# Altium integrated library Analog Devices Data Converters Analog-to-Digital Converters.IntLib: 2404 symbols (part 5 of 346)
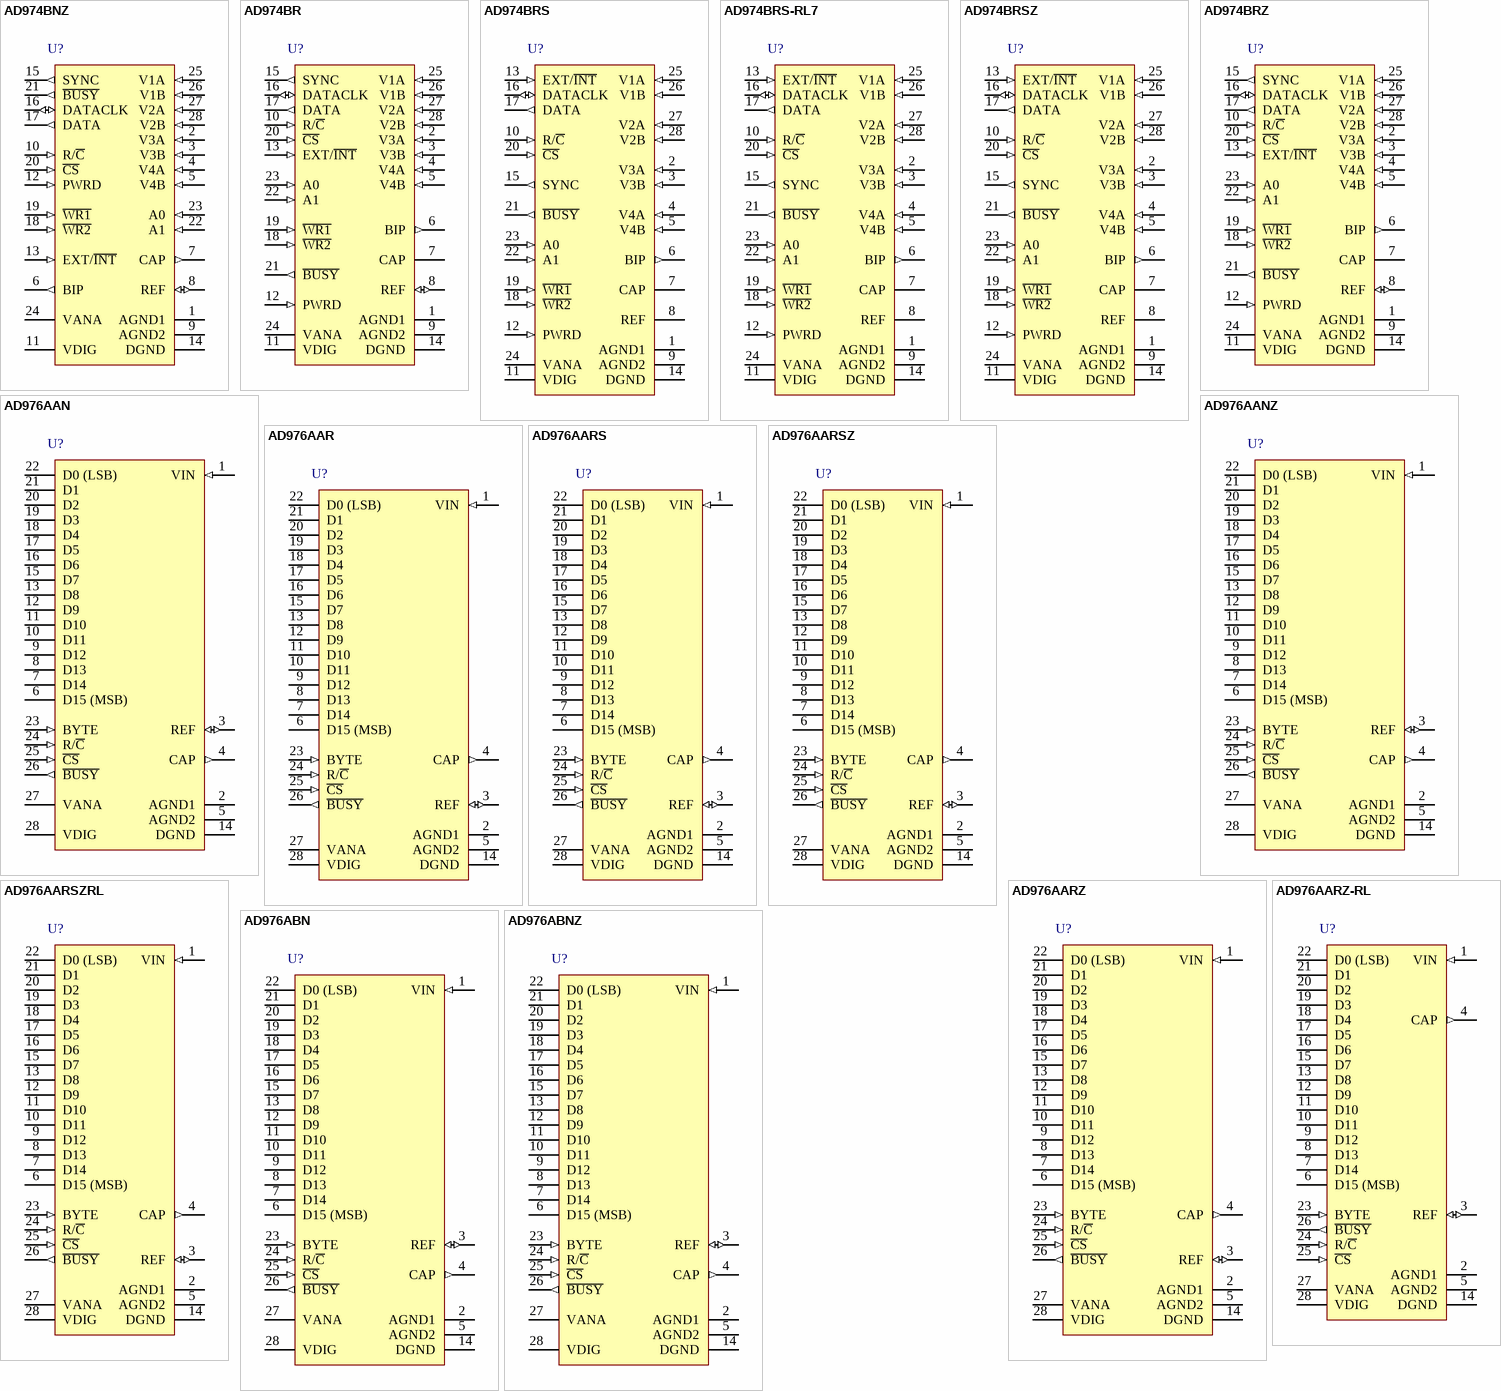
[diagram p158: symbols AD974BNZ to AD976ABNZ]

## AD974BR
designator U?
4 Channel, 16-Bit, 200 ksps Data Acquisition System, 200KSPS, -40 to +85 degC, RW-28, Tube; Generic Part Number: AD974; Manufacturer: Analog Devices; PartNumber: AD974BR; Resolution (Bits): 16; Channels: 4; Throughput Rate (SPS): 200K; Interface: Ser, SPI; DatasheetVersion: Rev.A; PackageVersion: 060706-A; PackageReference: RW-28; PackageDescription: 28-Lead Standard Small Outline Package [SOIC_W]; Supplier 1: Digi-Key; Supplier Part Number 1: AD974BR-ND; Supplier 2: Mouser; Supplier Part Number 2: 584-AD974BR; RoHS: N; Packing: Tube; Mounting Technology: Surface Mount; Code_JEDEC: MS-013-AE; ComponentLink1Description: Manufacturer URL; ComponentLink1URL: http://www.analog.com/en/index.html; ComponentLink2Description: Datasheet; ComponentLink2URL: http://www.analog.com/static/imported-files/data_sheets/AD974.pdf; ComponentLink3Description: Package Specification; ComponentLink3URL: http://www.analog.com/static/imported-files/packages/35833120341221RW_28.pdf; ComponentLink4Description: Product URL; ComponentLink4URL: http://www.analog.com/en/analog-to-digital-converters/ad-converters/ad974/products/product.html
footprint RW-28_N (SOIC, 28-Leads, Body 17.9x7.5mm, Pitch 1.27mm, IPC Medium Density)
footprint RW-28_L (SOIC, 28-Leads, Body 17.9x7.5mm, Pitch 1.27mm, IPC High Density)
footprint RW-28_M (SOIC, 28-Leads, Body 17.9x7.5mm, Pitch 1.27mm, IPC Low Density)
pins: 1 AGND1 (power) "Analog Ground. Used as the ground reference point for the REF pin.", 2 V3A (in) "Analog Input.  Refer to Table I for input range configuration.", 3 V3B (in) "Analog Input.  Refer to Table I for input range configuration.", 4 V4A (in) "Analog Input.  Refer to Table I for input range configuration.", 5 V4B (in) "Analog Input.  Refer to Table I for input range configuration.", 6 BIP (out) "Bipolar Offset. Connect VxA inputs to provide Bipolar input range.", 7 CAP "Reference Buffer Output.  Connect a 2.2 µF tantalum capacitor between CAP and Analog Ground.", 8 REF (io) "Reference Input/Output. The internal +2.5 V reference is available at this pin. Alternatively an external reference can be used to override the internal reference.  In either case, connect a 2.2 µF tantalum capacitor between (See Datasheet)", 9 AGND2 (power) "Analog Ground.", 10 R/~{C} (in) "Read/C\o\n\v\e\r\t\ Input. Used to control the conversion and read modes. With C\S\ LOW, a falling edge on R/C\ holds the analog input signal internally and starts a conversion; a rising edge enables the transmission of the (See Datasheet)", 11 VDIG (power) "Digital Power Supply. Nominally +5 V.", 12 PWRD (in) "Power-Down Input. When set to a logic HIGH, power consumption is reduced and conversions are inhibited. The conversion result from the previous conversion is stored in the onboard shift register.", 13 EXT/~{INT} (in) "Digital select input for choosing the internal or an external data clock. With EXT/I\N\T\tied LOW, after initiating a conversion, 16 DATACLK pulses transmit the previous conversion result as shown in Figure 3. With (See Datasheet)", 14 DGND (power) "Digital Ground.", 15 SYNC (out) "Digital output frame synchronization for use with an external data clock (EXT/I\N\T\ = Logic HIGH). When a read sequence is initiated, a pulse one DATACLK period wide is output synchronous to the external data clock.", 16 DATACLK (io) "Serial data clock input or output, dependent upon the logic state of the EXT/I\N\T\ pin. When using the internal data clock (EXT/I\N\T\ = Logic LOW), a conversion start sequence will initiate transmission of 16 DATACLK (See Datasheet)", 17 DATA (out) "The serial data output is synchronized to DATACLK.  Conversion results are stored in an onchip register.  The AD974 provides the conversion result, MSB first, from its internal shift register.  When using the internal data (See Datasheet)", 18 ~{WR2} (in) "Multiplexer Write Inputs.  These inputs are internally ORed to generate the mux latch inputs. The latch is transparent when W\R\1\ and W\R\2\ are tied low.", 19 ~{WR1} (in) "Multiplexer Write Inputs.  These inputs are internally ORed to generate the mux latch inputs. The latch is transparent when W\R\1\ and W\R\2\ are tied low.", 20 ~{CS} (in) "Chip Select Input. With R/C\ LOW, a falling edge on C\S\ will initiate a conversion. With R/C\ HIGH, a falling edge on C\S\ will enable the serial data output sequence.", 21 ~{BUSY} (out) "Busy Output. Goes LOW when a conversion is started, and remains LOW until the conversion is completed and the data is latched into the on-chip shift register.", 22 A1 (in) "Address multiplexer inputs latched with the W\R\1\, W\R\2\ inputs.", 23 A0 (in) "Address multiplexer inputs latched with the W\R\1\, W\R\2\ inputs.", 24 VANA (power) "Analog Power Supply. Nominally +5 V.", 25 V1A (in) "Analog Input.  Refer to Table I for input range configuration.", 26 V1B (in) "Analog Input.  Refer to Table I for input range configuration.", 27 V2A (in) "Analog Input.  Refer to Table I for input range configuration.", 28 V2B (in) "Analog Input.  Refer to Table I for input range configuration."

## AD974BRS
designator U?
4 Channel, 16-Bit, 200 ksps Data Acquisition System, 200KSPS, -40 to +85 degC, RS-28, Tube; Generic Part Number: AD974; Manufacturer: Analog Devices; PartNumber: AD974BRS; Resolution (Bits): 16; Channels: 4; Throughput Rate (SPS): 200K; Interface: Ser, SPI; DatasheetVersion: Rev.A; PackageVersion: 060106-A; PackageReference: RS-28; PackageDescription: 28-Lead Shrink Small Outline Package [SSOP]; Supplier 1: Digi-Key; Supplier Part Number 1: AD974BRS-ND; Supplier 2: Mouser; Supplier Part Number 2: 584-AD974BRS; RoHS: N; Packing: Tube; Mounting Technology: Surface Mount; Code_JEDEC: MO-150-AH; ComponentLink1Description: Manufacturer URL; ComponentLink1URL: http://www.analog.com/en/index.html; ComponentLink2Description: Datasheet; ComponentLink2URL: http://www.analog.com/static/imported-files/data_sheets/AD974.pdf; ComponentLink3Description: Package Specification; ComponentLink3URL: http://www.analog.com/static/imported-files/packages/32122249223724RS_28.pdf; ComponentLink4Description: Product URL; ComponentLink4URL: http://www.analog.com/en/analog-to-digital-converters/ad-converters/ad974/products/product.html
footprint RS-28_N (SOP, 28-Leads, Body 10.2x5.3mm, Pitch 0.65mm, IPC Medium Density)
footprint RS-28_L (SOP, 28-Leads, Body 10.2x5.3mm, Pitch 0.65mm, IPC High Density)
footprint RS-28_M (SOP, 28-Leads, Body 10.2x5.3mm, Pitch 0.65mm, IPC Low Density)
pins: 1 AGND1 (power) "Analog Ground. Used as the ground reference point for the REF pin.", 2 V3A (in) "Analog Input.  Refer to Table I for input range configuration.", 3 V3B (in) "Analog Input.  Refer to Table I for input range configuration.", 4 V4A (in) "Analog Input.  Refer to Table I for input range configuration.", 5 V4B (in) "Analog Input.  Refer to Table I for input range configuration.", 6 BIP (out) "Bipolar Offset. Connect VxA inputs to provide Bipolar input range.", 7 CAP "Reference Buffer Output.  Connect a 2.2 µF tantalum capacitor between CAP and Analog Ground.", 8 REF "Reference Input/Output. The internal +2.5 V reference is available at this pin. Alternatively an external reference can be used to override the internal reference.  In either case, connect a 2.2 µF tantalum capacitor between (See Datasheet)", 9 AGND2 (power) "Analog Ground.", 10 R/~{C} (in) "Read/C\o\n\v\e\r\t\ Input. Used to control the conversion and read modes. With C\S\ LOW, a falling edge on R/C\ holds the analog input signal internally and starts a conversion; a rising edge enables the transmission of the (See Datasheet)", 11 VDIG (power) "Digital Power Supply. Nominally +5 V.", 12 PWRD (in) "Power-Down Input. When set to a logic HIGH, power consumption is reduced and conversions are inhibited. The conversion result from the previous conversion is stored in the onboard shift register.", 13 EXT/~{INT} (in) "Digital select input for choosing the internal or an external data clock. With EXT/I\N\T\tied LOW, after initiating a conversion, 16 DATACLK pulses transmit the previous conversion result as shown in Figure 3. With (See Datasheet)", 14 DGND (power) "Digital Ground.", 15 SYNC (out) "Digital output frame synchronization for use with an external data clock (EXT/I\N\T\ = Logic HIGH). When a read sequence is initiated, a pulse one DATACLK period wide is output synchronous to the external data clock.", 16 DATACLK (io) "Serial data clock input or output, dependent upon the logic state of the EXT/I\N\T\ pin. When using the internal data clock (EXT/I\N\T\ = Logic LOW), a conversion start sequence will initiate transmission of 16 DATACLK (See Datasheet)", 17 DATA (out) "The serial data output is synchronized to DATACLK.  Conversion results are stored in an onchip register.  The AD974 provides the conversion result, MSB first, from its internal shift register.  When using the internal data (See Datasheet)", 18 ~{WR2} (in) "Multiplexer Write Inputs.  These inputs are internally ORed to generate the mux latch inputs. The latch is transparent when W\R\1\ and W\R\2\ are tied low.", 19 ~{WR1} (in) "Multiplexer Write Inputs.  These inputs are internally ORed to generate the mux latch inputs. The latch is transparent when W\R\1\ and W\R\2\ are tied low.", 20 ~{CS} (in) "Chip Select Input. With R/C\ LOW, a falling edge on C\S\ will initiate a conversion. With R/C\ HIGH, a falling edge on C\S\ will enable the serial data output sequence.", 21 ~{BUSY} (out) "Busy Output. Goes LOW when a conversion is started, and remains LOW until the conversion is completed and the data is latched into the on-chip shift register.", 22 A1 (in) "Address multiplexer inputs latched with the W\R\1\, W\R\2\ inputs.", 23 A0 (in) "Address multiplexer inputs latched with the W\R\1\, W\R\2\ inputs.", 24 VANA (power) "Analog Power Supply. Nominally +5 V.", 25 V1A (in) "Analog Input.  Refer to Table I for input range configuration.", 26 V1B (in) "Analog Input.  Refer to Table I for input range configuration.", 27 V2A (in) "Analog Input.  Refer to Table I for input range configuration.", 28 V2B (in) "Analog Input.  Refer to Table I for input range configuration."

## AD974BRS-RL7
designator U?
4 Channel, 16-Bit, 200 ksps Data Acquisition System, 200KSPS, -40 to +85 degC, RS-28, Reel; Generic Part Number: AD974; Manufacturer: Analog Devices; PartNumber: AD974BRS-RL7; Resolution (Bits): 16; Channels: 4; Throughput Rate (SPS): 200K; Interface: Ser, SPI; DatasheetVersion: Rev.A; PackageVersion: 060106-A; PackageReference: RS-28; PackageDescription: 28-Lead Shrink Small Outline Package [SSOP]; Supplier 1: Digi-Key; Supplier Part Number 1: AD974BRS-RL7-ND; Supplier 2: Mouser; Supplier Part Number 2: 584-AD974BRS-R7; RoHS: N; Packing: Reel; Mounting Technology: Surface Mount; Code_JEDEC: MO-150-AH; ComponentLink1Description: Manufacturer URL; ComponentLink1URL: http://www.analog.com/en/index.html; ComponentLink2Description: Datasheet; ComponentLink2URL: http://www.analog.com/static/imported-files/data_sheets/AD974.pdf; ComponentLink3Description: Package Specification; ComponentLink3URL: http://www.analog.com/static/imported-files/packages/32122249223724RS_28.pdf; ComponentLink4Description: Product URL; ComponentLink4URL: http://www.analog.com/en/analog-to-digital-converters/ad-converters/ad974/products/product.html
footprint RS-28_N (SOP, 28-Leads, Body 10.2x5.3mm, Pitch 0.65mm, IPC Medium Density)
footprint RS-28_L (SOP, 28-Leads, Body 10.2x5.3mm, Pitch 0.65mm, IPC High Density)
footprint RS-28_M (SOP, 28-Leads, Body 10.2x5.3mm, Pitch 0.65mm, IPC Low Density)
pins: 1 AGND1 (power) "Analog Ground. Used as the ground reference point for the REF pin.", 2 V3A (in) "Analog Input.  Refer to Table I for input range configuration.", 3 V3B (in) "Analog Input.  Refer to Table I for input range configuration.", 4 V4A (in) "Analog Input.  Refer to Table I for input range configuration.", 5 V4B (in) "Analog Input.  Refer to Table I for input range configuration.", 6 BIP (out) "Bipolar Offset. Connect VxA inputs to provide Bipolar input range.", 7 CAP "Reference Buffer Output.  Connect a 2.2 µF tantalum capacitor between CAP and Analog Ground.", 8 REF "Reference Input/Output. The internal +2.5 V reference is available at this pin. Alternatively an external reference can be used to override the internal reference.  In either case, connect a 2.2 µF tantalum capacitor between (See Datasheet)", 9 AGND2 (power) "Analog Ground.", 10 R/~{C} (in) "Read/C\o\n\v\e\r\t\ Input. Used to control the conversion and read modes. With C\S\ LOW, a falling edge on R/C\ holds the analog input signal internally and starts a conversion; a rising edge enables the transmission of the (See Datasheet)", 11 VDIG (power) "Digital Power Supply. Nominally +5 V.", 12 PWRD (in) "Power-Down Input. When set to a logic HIGH, power consumption is reduced and conversions are inhibited. The conversion result from the previous conversion is stored in the onboard shift register.", 13 EXT/~{INT} (in) "Digital select input for choosing the internal or an external data clock. With EXT/I\N\T\tied LOW, after initiating a conversion, 16 DATACLK pulses transmit the previous conversion result as shown in Figure 3. With (See Datasheet)", 14 DGND (power) "Digital Ground.", 15 SYNC (out) "Digital output frame synchronization for use with an external data clock (EXT/I\N\T\ = Logic HIGH). When a read sequence is initiated, a pulse one DATACLK period wide is output synchronous to the external data clock.", 16 DATACLK (io) "Serial data clock input or output, dependent upon the logic state of the EXT/I\N\T\ pin. When using the internal data clock (EXT/I\N\T\ = Logic LOW), a conversion start sequence will initiate transmission of 16 DATACLK (See Datasheet)", 17 DATA (out) "The serial data output is synchronized to DATACLK.  Conversion results are stored in an onchip register.  The AD974 provides the conversion result, MSB first, from its internal shift register.  When using the internal data (See Datasheet)", 18 ~{WR2} (in) "Multiplexer Write Inputs.  These inputs are internally ORed to generate the mux latch inputs. The latch is transparent when W\R\1\ and W\R\2\ are tied low.", 19 ~{WR1} (in) "Multiplexer Write Inputs.  These inputs are internally ORed to generate the mux latch inputs. The latch is transparent when W\R\1\ and W\R\2\ are tied low.", 20 ~{CS} (in) "Chip Select Input. With R/C\ LOW, a falling edge on C\S\ will initiate a conversion. With R/C\ HIGH, a falling edge on C\S\ will enable the serial data output sequence.", 21 ~{BUSY} (out) "Busy Output. Goes LOW when a conversion is started, and remains LOW until the conversion is completed and the data is latched into the on-chip shift register.", 22 A1 (in) "Address multiplexer inputs latched with the W\R\1\, W\R\2\ inputs.", 23 A0 (in) "Address multiplexer inputs latched with the W\R\1\, W\R\2\ inputs.", 24 VANA (power) "Analog Power Supply. Nominally +5 V.", 25 V1A (in) "Analog Input.  Refer to Table I for input range configuration.", 26 V1B (in) "Analog Input.  Refer to Table I for input range configuration.", 27 V2A (in) "Analog Input.  Refer to Table I for input range configuration.", 28 V2B (in) "Analog Input.  Refer to Table I for input range configuration."

## AD974BRSZ
designator U?
4 Channel, 16-Bit, 200 ksps Data Acquisition System, 200KSPS, -40 to +85 degC, RS-28, Pb-Free, Tube; Generic Part Number: AD974; Manufacturer: Analog Devices; PartNumber: AD974BRSZ; Resolution (Bits): 16; Channels: 4; Throughput Rate (SPS): 200K; Interface: Ser, SPI; DatasheetVersion: Rev.A; PackageVersion: 060106-A; PackageReference: RS-28; PackageDescription: 28-Lead Shrink Small Outline Package [SSOP]; Supplier 1: Digi-Key; Supplier Part Number 1: AD974BRSZ-ND; Supplier 2: Mouser; Supplier Part Number 2: 584-AD974BRSZ; RoHS: Y; Packing: Tube; Mounting Technology: Surface Mount; Code_JEDEC: MO-150-AH; ComponentLink1Description: Manufacturer URL; ComponentLink1URL: http://www.analog.com/en/index.html; ComponentLink2Description: Datasheet; ComponentLink2URL: http://www.analog.com/static/imported-files/data_sheets/AD974.pdf; ComponentLink3Description: Package Specification; ComponentLink3URL: http://www.analog.com/static/imported-files/packages/32122249223724RS_28.pdf; ComponentLink4Description: Product URL; ComponentLink4URL: http://www.analog.com/en/analog-to-digital-converters/ad-converters/ad974/products/product.html
footprint RS-28_N (SOP, 28-Leads, Body 10.2x5.3mm, Pitch 0.65mm, IPC Medium Density)
footprint RS-28_L (SOP, 28-Leads, Body 10.2x5.3mm, Pitch 0.65mm, IPC High Density)
footprint RS-28_M (SOP, 28-Leads, Body 10.2x5.3mm, Pitch 0.65mm, IPC Low Density)
pins: 1 AGND1 (power) "Analog Ground. Used as the ground reference point for the REF pin.", 2 V3A (in) "Analog Input.  Refer to Table I for input range configuration.", 3 V3B (in) "Analog Input.  Refer to Table I for input range configuration.", 4 V4A (in) "Analog Input.  Refer to Table I for input range configuration.", 5 V4B (in) "Analog Input.  Refer to Table I for input range configuration.", 6 BIP (out) "Bipolar Offset. Connect VxA inputs to provide Bipolar input range.", 7 CAP "Reference Buffer Output.  Connect a 2.2 µF tantalum capacitor between CAP and Analog Ground.", 8 REF "Reference Input/Output. The internal +2.5 V reference is available at this pin. Alternatively an external reference can be used to override the internal reference.  In either case, connect a 2.2 µF tantalum capacitor between (See Datasheet)", 9 AGND2 (power) "Analog Ground.", 10 R/~{C} (in) "Read/C\o\n\v\e\r\t\ Input. Used to control the conversion and read modes. With C\S\ LOW, a falling edge on R/C\ holds the analog input signal internally and starts a conversion; a rising edge enables the transmission of the (See Datasheet)", 11 VDIG (power) "Digital Power Supply. Nominally +5 V.", 12 PWRD (in) "Power-Down Input. When set to a logic HIGH, power consumption is reduced and conversions are inhibited. The conversion result from the previous conversion is stored in the onboard shift register.", 13 EXT/~{INT} (in) "Digital select input for choosing the internal or an external data clock. With EXT/I\N\T\tied LOW, after initiating a conversion, 16 DATACLK pulses transmit the previous conversion result as shown in Figure 3. With (See Datasheet)", 14 DGND (power) "Digital Ground.", 15 SYNC (out) "Digital output frame synchronization for use with an external data clock (EXT/I\N\T\ = Logic HIGH). When a read sequence is initiated, a pulse one DATACLK period wide is output synchronous to the external data clock.", 16 DATACLK (io) "Serial data clock input or output, dependent upon the logic state of the EXT/I\N\T\ pin. When using the internal data clock (EXT/I\N\T\ = Logic LOW), a conversion start sequence will initiate transmission of 16 DATACLK (See Datasheet)", 17 DATA (out) "The serial data output is synchronized to DATACLK.  Conversion results are stored in an onchip register.  The AD974 provides the conversion result, MSB first, from its internal shift register.  When using the internal data (See Datasheet)", 18 ~{WR2} (in) "Multiplexer Write Inputs.  These inputs are internally ORed to generate the mux latch inputs. The latch is transparent when W\R\1\ and W\R\2\ are tied low.", 19 ~{WR1} (in) "Multiplexer Write Inputs.  These inputs are internally ORed to generate the mux latch inputs. The latch is transparent when W\R\1\ and W\R\2\ are tied low.", 20 ~{CS} (in) "Chip Select Input. With R/C\ LOW, a falling edge on C\S\ will initiate a conversion. With R/C\ HIGH, a falling edge on C\S\ will enable the serial data output sequence.", 21 ~{BUSY} (out) "Busy Output. Goes LOW when a conversion is started, and remains LOW until the conversion is completed and the data is latched into the on-chip shift register.", 22 A1 (in) "Address multiplexer inputs latched with the W\R\1\, W\R\2\ inputs.", 23 A0 (in) "Address multiplexer inputs latched with the W\R\1\, W\R\2\ inputs.", 24 VANA (power) "Analog Power Supply. Nominally +5 V.", 25 V1A (in) "Analog Input.  Refer to Table I for input range configuration.", 26 V1B (in) "Analog Input.  Refer to Table I for input range configuration.", 27 V2A (in) "Analog Input.  Refer to Table I for input range configuration.", 28 V2B (in) "Analog Input.  Refer to Table I for input range configuration."

## AD974BRZ
designator U?
4 Channel, 16-Bit, 200 ksps Data Acquisition System, 200KSPS, -40 to +85 degC, RW-28, Pb-Free, Tube; Generic Part Number: AD974; Manufacturer: Analog Devices; PartNumber: AD974BRZ; Resolution (Bits): 16; Channels: 4; Throughput Rate (SPS): 200K; Interface: Ser, SPI; DatasheetVersion: Rev.A; PackageVersion: 060706-A; PackageReference: RW-28; PackageDescription: 28-Lead Standard Small Outline Package [SOIC_W]; Supplier 1: Digi-Key; Supplier Part Number 1: AD974BRZ-ND; Supplier 2: Newark; Supplier Part Number 2: 59K7334; Supplier 3: Mouser; Supplier Part Number 3: 584-AD974BRZ; RoHS: Y; Packing: Tube; Mounting Technology: Surface Mount; Code_JEDEC: MS-013-AE; ComponentLink1Description: Manufacturer URL; ComponentLink1URL: http://www.analog.com/en/index.html; ComponentLink2Description: Datasheet; ComponentLink2URL: http://www.analog.com/static/imported-files/data_sheets/AD974.pdf; ComponentLink3Description: Package Specification; ComponentLink3URL: http://www.analog.com/static/imported-files/packages/35833120341221RW_28.pdf; ComponentLink4Description: Product URL; ComponentLink4URL: http://www.analog.com/en/analog-to-digital-converters/ad-converters/ad974/products/product.html
footprint RW-28_N (SOIC, 28-Leads, Body 17.9x7.5mm, Pitch 1.27mm, IPC Medium Density)
footprint RW-28_L (SOIC, 28-Leads, Body 17.9x7.5mm, Pitch 1.27mm, IPC High Density)
footprint RW-28_M (SOIC, 28-Leads, Body 17.9x7.5mm, Pitch 1.27mm, IPC Low Density)
pins: 1 AGND1 (power) "Analog Ground. Used as the ground reference point for the REF pin.", 2 V3A (in) "Analog Input.  Refer to Table I for input range configuration.", 3 V3B (in) "Analog Input.  Refer to Table I for input range configuration.", 4 V4A (in) "Analog Input.  Refer to Table I for input range configuration.", 5 V4B (in) "Analog Input.  Refer to Table I for input range configuration.", 6 BIP (out) "Bipolar Offset. Connect VxA inputs to provide Bipolar input range.", 7 CAP "Reference Buffer Output.  Connect a 2.2 µF tantalum capacitor between CAP and Analog Ground.", 8 REF (io) "Reference Input/Output. The internal +2.5 V reference is available at this pin. Alternatively an external reference can be used to override the internal reference.  In either case, connect a 2.2 µF tantalum capacitor between (See Datasheet)", 9 AGND2 (power) "Analog Ground.", 10 R/~{C} (in) "Read/C\o\n\v\e\r\t\ Input. Used to control the conversion and read modes. With C\S\ LOW, a falling edge on R/C\ holds the analog input signal internally and starts a conversion; a rising edge enables the transmission of the (See Datasheet)", 11 VDIG (power) "Digital Power Supply. Nominally +5 V.", 12 PWRD (in) "Power-Down Input. When set to a logic HIGH, power consumption is reduced and conversions are inhibited. The conversion result from the previous conversion is stored in the onboard shift register.", 13 EXT/~{INT} (in) "Digital select input for choosing the internal or an external data clock. With EXT/I\N\T\tied LOW, after initiating a conversion, 16 DATACLK pulses transmit the previous conversion result as shown in Figure 3. With (See Datasheet)", 14 DGND (power) "Digital Ground.", 15 SYNC (out) "Digital output frame synchronization for use with an external data clock (EXT/I\N\T\ = Logic HIGH). When a read sequence is initiated, a pulse one DATACLK period wide is output synchronous to the external data clock.", 16 DATACLK (io) "Serial data clock input or output, dependent upon the logic state of the EXT/I\N\T\ pin. When using the internal data clock (EXT/I\N\T\ = Logic LOW), a conversion start sequence will initiate transmission of 16 DATACLK (See Datasheet)", 17 DATA (out) "The serial data output is synchronized to DATACLK.  Conversion results are stored in an onchip register.  The AD974 provides the conversion result, MSB first, from its internal shift register.  When using the internal data (See Datasheet)", 18 ~{WR2} (in) "Multiplexer Write Inputs.  These inputs are internally ORed to generate the mux latch inputs. The latch is transparent when W\R\1\ and W\R\2\ are tied low.", 19 ~{WR1} (in) "Multiplexer Write Inputs.  These inputs are internally ORed to generate the mux latch inputs. The latch is transparent when W\R\1\ and W\R\2\ are tied low.", 20 ~{CS} (in) "Chip Select Input. With R/C\ LOW, a falling edge on C\S\ will initiate a conversion. With R/C\ HIGH, a falling edge on C\S\ will enable the serial data output sequence.", 21 ~{BUSY} (out) "Busy Output. Goes LOW when a conversion is started, and remains LOW until the conversion is completed and the data is latched into the on-chip shift register.", 22 A1 (in) "Address multiplexer inputs latched with the W\R\1\, W\R\2\ inputs.", 23 A0 (in) "Address multiplexer inputs latched with the W\R\1\, W\R\2\ inputs.", 24 VANA (power) "Analog Power Supply. Nominally +5 V.", 25 V1A (in) "Analog Input.  Refer to Table I for input range configuration.", 26 V1B (in) "Analog Input.  Refer to Table I for input range configuration.", 27 V2A (in) "Analog Input.  Refer to Table I for input range configuration.", 28 V2B (in) "Analog Input.  Refer to Table I for input range configuration."

## AD976AAN
designator U?
Single 16-Bit BiCMOS Analog-to-Digital Converter with Parallel Interface, CMOS, 200KSPS, -40 to +85 degC, N-28-2, Tube; Generic Part Number: AD976A; Manufacturer: Analog Devices; PartNumber: AD976AAN; Resolution (Bits): 16; Channels: 1; Throughput Rate (SPS): 200K; Interface: Par; DatasheetVersion: Rev.C; PackageVersion: 071006-A; PackageReference: N-28-2; PackageDescription: 28-Lead Plastic Dual In-Line Package [PDIP]; Supplier 1: Digi-Key; Supplier Part Number 1: AD976AAN-ND; Supplier 2: Mouser; Supplier Part Number 2: 584-AD976AAN; RoHS: N; Packing: Tube; Mounting Technology: Through-hole; Code_JEDEC: MS-011; ComponentLink1Description: Manufacturer URL; ComponentLink1URL: http://www.analog.com/en/index.html; ComponentLink2Description: Datasheet; ComponentLink2URL: http://www.analog.com/static/imported-files/data_sheets/AD976_976A.pdf; ComponentLink3Description: Package Specification; ComponentLink3URL: http://www.analog.com/static/imported-files/packages/50849324123784N_28_2.pdf; ComponentLink4Description: Product URL; ComponentLink4URL: http://www.analog.com/en/analog-to-digital-converters/ad-converters/ad976a/products/product.html
footprint N-28-2 (DIP, 28-Leads, Row Spacing 15.55mm, Pitch 2.54mm, Body 37.4x13.5mm)
pins: 1 VIN (in) "Analog Input. Connect a 200 ohm resistor between VIN and the analog signal source. The full-scale input range is +/-10 V.", 2 AGND1 (power) "Analog Ground. Used as the ground reference point for the REF pin.", 3 REF (io) "Reference Input/Output. The internal +2.5 V reference is available at this pin. Alternatively, an external reference can be used to override the internal reference. In either case, connect a 2.2 uF tantalum capacitor between (See Datasheet)", 4 CAP (out) "Reference Buffer Output. Connect a 2.2 uF tantalum capacitor between CAP and AGND2.", 5 AGND2 (power) "Analog Ground.", 6 D15 (MSB) (hiz) "Data Bit 15. Most significant bit of conversion result. High impedance state when C\S\ is HIGH or when R/C\ is LOW.", 7 D14 (hiz) "Data Bits 14. High impedance state when C\S\ is HIGH or when R/C\ is LOW.", 8 D13 (hiz) "Data Bits 13. High impedance state when C\S\ is HIGH or when R/C\ is LOW.", 9 D12 (hiz) "Data Bits 12. High impedance state when C\S\ is HIGH or when R/C\ is LOW.", 10 D11 (hiz) "Data Bits 11. High impedance state when C\S\ is HIGH or when R/C\ is LOW.", 11 D10 (hiz) "Data Bits 10. High impedance state when C\S\ is HIGH or when R/C\ is LOW.", 12 D9 (hiz) "Data Bits 9. High impedance state when C\S\ is HIGH or when R/C\ is LOW.", 13 D8 (hiz) "Data Bits 8. High impedance state when C\S\ is HIGH or when R/C\ is LOW.", 14 DGND (power) "Digital Ground.", 15 D7 (hiz) "Data Bits 7. High impedance state when C\S\ is HIGH or when R/C\ is LOW.", 16 D6 (hiz) "Data Bits 6. High impedance state when C\S\ is HIGH or when R/C\ is LOW.", 17 D5 (hiz) "Data Bits 5. High impedance state when C\S\ is HIGH or when R/C\ is LOW.", 18 D4 (hiz) "Data Bits 4. High impedance state when C\S\ is HIGH or when R/C\ is LOW.", 19 D3 (hiz) "Data Bits 3. High impedance state when C\S\ is HIGH or when R/C\ is LOW.", 20 D2 (hiz) "Data Bits 2. High impedance state when C\S\ is HIGH or when R/C\ is LOW.", 21 D1 (hiz) "Data Bits 1. High impedance state when C\S\ is HIGH or when R/C\ is LOW.", 22 D0 (LSB) (hiz) "Data Bit 0. Least significant bit of conversion result. High impedance state when C\S\ is HIGH or when R/C\ is LOW.", 23 BYTE (in) "Byte Select. With BYTE LOW, data will be output as indicated above; Pin 6 (D15) is the MSB, Pin 22 (D0) is the LSB. With BYTE HIGH, the top and bottom 8 bits of data will be switched; D15-D8 are output on Pins 15-22 and (See Datasheet)", 24 R/~{C} (in) "Read/Convert Input. With C\S\ LOW, a falling edge on R/C\ puts the internal sample/hold into the hold state and starts a conversion; a rising edge enables the output data bits.", 25 ~{CS} (in) "Chip Select Input. Internally OR'S with R/C\. With R/C\ LOW, a falling edge on C\S\ will initiate a conversion. With R/C\ HIGH, a falling edge on C\S\ will enable the output data bits. When C\S\ is HIGH, the output data bits (See Datasheet)", 26 ~{BUSY} (out) "Busy Output. Goes LOW when a conversion is started and remains LOW until the conversion is completed and the data is latched into the output register. With C\S\ tied LOW and R/C\ HIGH, output data will be valid when B\U\S\Y\ (See Datasheet)", 27 VANA (power) "Analog Power Supply. Nominally +5 V.", 28 VDIG (power) "Digital Power Supply. Nominally +5 V."

## AD976AANZ
designator U?
Single 16-Bit BiCMOS Analog-to-Digital Converter with Parallel Interface, CMOS, 200KSPS, -40 to +85 degC, N-28-2, Pb-Free, Tube; Generic Part Number: AD976A; Manufacturer: Analog Devices; PartNumber: AD976AANZ; Resolution (Bits): 16; Channels: 1; Throughput Rate (SPS): 200K; Interface: Par; DatasheetVersion: Rev.C; PackageVersion: 071006-A; PackageReference: N-28-2; PackageDescription: 28-Lead Plastic Dual In-Line Package [PDIP]; Supplier 1: Digi-Key; Supplier Part Number 1: AD976AANZ-ND; Supplier 2: Farnell; Supplier Part Number 2: 1438568; Supplier 3: Newark; Supplier Part Number 3: 15P1061; Supplier 4: Mouser; Supplier Part Number 4: 584-AD976AANZ; RoHS: Y; Packing: Tube; Mounting Technology: Through-hole; Code_JEDEC: MS-011; ComponentLink1Description: Manufacturer URL; ComponentLink1URL: http://www.analog.com/en/index.html; ComponentLink2Description: Datasheet; ComponentLink2URL: http://www.analog.com/static/imported-files/data_sheets/AD976_976A.pdf; ComponentLink3Description: Package Specification; ComponentLink3URL: http://www.analog.com/static/imported-files/packages/50849324123784N_28_2.pdf; ComponentLink4Description: Product URL; ComponentLink4URL: http://www.analog.com/en/analog-to-digital-converters/ad-converters/ad976a/products/product.html
footprint N-28-2 (DIP, 28-Leads, Row Spacing 15.55mm, Pitch 2.54mm, Body 37.4x13.5mm)
pins: 1 VIN (in) "Analog Input. Connect a 200 ohm resistor between VIN and the analog signal source. The full-scale input range is +/-10 V.", 2 AGND1 (power) "Analog Ground. Used as the ground reference point for the REF pin.", 3 REF (io) "Reference Input/Output. The internal +2.5 V reference is available at this pin. Alternatively, an external reference can be used to override the internal reference. In either case, connect a 2.2 uF tantalum capacitor between (See Datasheet)", 4 CAP (out) "Reference Buffer Output. Connect a 2.2 uF tantalum capacitor between CAP and AGND2.", 5 AGND2 (power) "Analog Ground.", 6 D15 (MSB) (hiz) "Data Bit 15. Most significant bit of conversion result. High impedance state when C\S\ is HIGH or when R/C\ is LOW.", 7 D14 (hiz) "Data Bits 14. High impedance state when C\S\ is HIGH or when R/C\ is LOW.", 8 D13 (hiz) "Data Bits 13. High impedance state when C\S\ is HIGH or when R/C\ is LOW.", 9 D12 (hiz) "Data Bits 12. High impedance state when C\S\ is HIGH or when R/C\ is LOW.", 10 D11 (hiz) "Data Bits 11. High impedance state when C\S\ is HIGH or when R/C\ is LOW.", 11 D10 (hiz) "Data Bits 10. High impedance state when C\S\ is HIGH or when R/C\ is LOW.", 12 D9 (hiz) "Data Bits 9. High impedance state when C\S\ is HIGH or when R/C\ is LOW.", 13 D8 (hiz) "Data Bits 8. High impedance state when C\S\ is HIGH or when R/C\ is LOW.", 14 DGND (power) "Digital Ground.", 15 D7 (hiz) "Data Bits 7. High impedance state when C\S\ is HIGH or when R/C\ is LOW.", 16 D6 (hiz) "Data Bits 6. High impedance state when C\S\ is HIGH or when R/C\ is LOW.", 17 D5 (hiz) "Data Bits 5. High impedance state when C\S\ is HIGH or when R/C\ is LOW.", 18 D4 (hiz) "Data Bits 4. High impedance state when C\S\ is HIGH or when R/C\ is LOW.", 19 D3 (hiz) "Data Bits 3. High impedance state when C\S\ is HIGH or when R/C\ is LOW.", 20 D2 (hiz) "Data Bits 2. High impedance state when C\S\ is HIGH or when R/C\ is LOW.", 21 D1 (hiz) "Data Bits 1. High impedance state when C\S\ is HIGH or when R/C\ is LOW.", 22 D0 (LSB) (hiz) "Data Bit 0. Least significant bit of conversion result. High impedance state when C\S\ is HIGH or when R/C\ is LOW.", 23 BYTE (in) "Byte Select. With BYTE LOW, data will be output as indicated above; Pin 6 (D15) is the MSB, Pin 22 (D0) is the LSB. With BYTE HIGH, the top and bottom 8 bits of data will be switched; D15-D8 are output on Pins 15-22 and (See Datasheet)", 24 R/~{C} (in) "Read/Convert Input. With C\S\ LOW, a falling edge on R/C\ puts the internal sample/hold into the hold state and starts a conversion; a rising edge enables the output data bits.", 25 ~{CS} (in) "Chip Select Input. Internally OR'S with R/C\. With R/C\ LOW, a falling edge on C\S\ will initiate a conversion. With R/C\ HIGH, a falling edge on C\S\ will enable the output data bits. When C\S\ is HIGH, the output data bits (See Datasheet)", 26 ~{BUSY} (out) "Busy Output. Goes LOW when a conversion is started and remains LOW until the conversion is completed and the data is latched into the output register. With C\S\ tied LOW and R/C\ HIGH, output data will be valid when B\U\S\Y\ (See Datasheet)", 27 VANA (power) "Analog Power Supply. Nominally +5 V.", 28 VDIG (power) "Digital Power Supply. Nominally +5 V."

## AD976AAR
designator U?
Single 16-Bit BiCMOS Analog-to-Digital Converter with Parallel Interface, CMOS, 200KSPS, 0 to +70 degC, RW-28, Tube; Generic Part Number: AD976A; Manufacturer: Analog Devices; PartNumber: AD976AAR; Resolution (Bits): 16; Channels: 1; Throughput Rate (SPS): 200K; Interface: Par; DatasheetVersion: Rev.C; PackageVersion: 060706-A; PackageReference: RW-28; PackageDescription: 28-Lead Standard Small Outline Package [SOIC_W]; Supplier 1: Digi-Key; Supplier Part Number 1: AD976AAR-ND; Supplier 2: Mouser; Supplier Part Number 2: 584-AD976AAR; RoHS: N; Packing: Tube; Mounting Technology: Surface Mount; Code_JEDEC: MS-013-AE; ComponentLink1Description: Manufacturer URL; ComponentLink1URL: http://www.analog.com/en/index.html; ComponentLink2Description: Datasheet; ComponentLink2URL: http://www.analog.com/static/imported-files/data_sheets/AD976_976A.pdf; ComponentLink3Description: Package Specification; ComponentLink3URL: http://www.analog.com/static/imported-files/packages/35833120341221RW_28.pdf; ComponentLink4Description: Product URL; ComponentLink4URL: http://www.analog.com/en/analog-to-digital-converters/ad-converters/ad976a/products/product.html
footprint RW-28_N (SOIC, 28-Leads, Body 17.9x7.5mm, Pitch 1.27mm, IPC Medium Density)
footprint RW-28_L (SOIC, 28-Leads, Body 17.9x7.5mm, Pitch 1.27mm, IPC High Density)
footprint RW-28_M (SOIC, 28-Leads, Body 17.9x7.5mm, Pitch 1.27mm, IPC Low Density)
pins: 1 VIN (in) "Analog Input. Connect a 200 ohm resistor between VIN and the analog signal source. The full-scale input range is +/-10 V.", 2 AGND1 (power) "Analog Ground. Used as the ground reference point for the REF pin.", 3 REF (io) "Reference Input/Output. The internal +2.5 V reference is available at this pin. Alternatively, an external reference can be used to override the internal reference. In either case, connect a 2.2 µf tantalum capacitor between (See Datasheet)", 4 CAP (out) "Reference Buffer Output. Connect a 2.2 µF tantalum capacitor between CAP and AGND2.", 5 AGND2 (power) "Analog Ground.", 6 D15 (MSB) (hiz) "Data Bit 15. Most significant bit of conversion result. High impedance state when C\S\ is HIGH or when R/C\ is LOW.", 7 D14 (hiz) "Data Bits 14. High impedance state when C\S\ is HIGH or when R/C\ is LOW.", 8 D13 (hiz) "Data Bits 13. High impedance state when C\S\ is HIGH or when R/C\ is LOW.", 9 D12 (hiz) "Data Bits 12. High impedance state when C\S\ is HIGH or when R/C\ is LOW.", 10 D11 (hiz) "Data Bits 11. High impedance state when C\S\ is HIGH or when R/C\ is LOW.", 11 D10 (hiz) "Data Bits 10. High impedance state when C\S\ is HIGH or when R/C\ is LOW.", 12 D9 (hiz) "Data Bits 9. High impedance state when C\S\ is HIGH or when R/C\ is LOW.", 13 D8 (hiz) "Data Bits 8. High impedance state when C\S\ is HIGH or when R/C\ is LOW.", 14 DGND (power) "Digital Ground.", 15 D7 (hiz) "Data Bits 7. High impedance state when C\S\ is HIGH or when R/C\ is LOW.", 16 D6 (hiz) "Data Bits 6. High impedance state when C\S\ is HIGH or when R/C\ is LOW.", 17 D5 (hiz) "Data Bits 5. High impedance state when C\S\ is HIGH or when R/C\ is LOW.", 18 D4 (hiz) "Data Bits 4. High impedance state when C\S\ is HIGH or when R/C\ is LOW.", 19 D3 (hiz) "Data Bits 3. High impedance state when C\S\ is HIGH or when R/C\ is LOW.", 20 D2 (hiz) "Data Bits 2. High impedance state when C\S\ is HIGH or when R/C\ is LOW.", 21 D1 (hiz) "Data Bits 1. High impedance state when C\S\ is HIGH or when R/C\ is LOW.", 22 D0 (LSB) (hiz) "Data Bit 0. Least significant bit of conversion result. High impedance state when C\S\ is HIGH or when R/C\ is LOW.", 23 BYTE (in) "Byte Select. With BYTE LOW, data will be output as indicated above; Pin 6 (D15) is the MSB, Pin 22 (D0) is the LSB. With BYTE HIGH, the top and bottom 8 bits of data will be switched; D15-D8 are output on Pins 15-22 and (See Datasheet)", 24 R/~{C} (in) "Read/Convert Input. With C\S\ LOW, a falling edge on R/C\ puts the internal sample/hold into the hold state and starts a conversion; a rising edge enables the output data bits.", 25 ~{CS} (in) "Chip Select Input. Internally OR’d with R/C\. With R/C\ LOW, a falling edge on C\S\ will initiate a conversion. With R/C\ HIGH, a falling edge on C\S\ will enable the output data bits. When C\S\ is HIGH, the output data bits (See Datasheet)", 26 ~{BUSY} (out) "Busy Output. Goes LOW when a conversion is started and remains LOW until the conversion is completed and the data is latched into the output register. With C\S\ tied LOW and R/C\ HIGH, output data will be valid when B\U\S\Y\ (See Datasheet)", 27 VANA (power) "Analog Power Supply. Nominally +5 V.", 28 VDIG (power) "Digital Power Supply. Nominally +5 V."

## AD976AARS
designator U?
Single 16-Bit BiCMOS Analog-to-Digital Converter with Parallel Interface, CMOS, 200KSPS, -40 to +85 degC, RS-28, Tube; Generic Part Number: AD976A; Manufacturer: Analog Devices; PartNumber: AD976AARS; Resolution (Bits): 16; Channels: 1; Throughput Rate (SPS): 200K; Interface: Par; DatasheetVersion: Rev.C; PackageVersion: 060106-A; PackageReference: RS-28; PackageDescription: 28-Lead Shrink Small Outline Package [SSOP]; Supplier 1: Digi-Key; Supplier Part Number 1: AD976AARS-ND; Supplier 2: Mouser; Supplier Part Number 2: 584-AD976AARS; RoHS: N; Packing: Tube; Mounting Technology: Surface Mount; Code_JEDEC: MO-150-AH; ComponentLink1Description: Manufacturer URL; ComponentLink1URL: http://www.analog.com/en/index.html; ComponentLink2Description: Datasheet; ComponentLink2URL: http://www.analog.com/static/imported-files/data_sheets/AD976_976A.pdf; ComponentLink3Description: Package Specification; ComponentLink3URL: http://www.analog.com/static/imported-files/packages/32122249223724RS_28.pdf; ComponentLink4Description: Product URL; ComponentLink4URL: http://www.analog.com/en/analog-to-digital-converters/ad-converters/ad976a/products/product.html
footprint RS-28_N (SOP, 28-Leads, Body 10.2x5.3mm, Pitch 0.65mm, IPC Medium Density)
footprint RS-28_L (SOP, 28-Leads, Body 10.2x5.3mm, Pitch 0.65mm, IPC High Density)
footprint RS-28_M (SOP, 28-Leads, Body 10.2x5.3mm, Pitch 0.65mm, IPC Low Density)
pins: 1 VIN (in) "Analog Input. Connect a 200 ohm resistor between VIN and the analog signal source. The full-scale input range is +/-10 V.", 2 AGND1 (power) "Analog Ground. Used as the ground reference point for the REF pin.", 3 REF (io) "Reference Input/Output. The internal +2.5 V reference is available at this pin. Alternatively, an external reference can be used to override the internal reference. In either case, connect a 2.2 µf tantalum capacitor between (See Datasheet)", 4 CAP (out) "Reference Buffer Output. Connect a 2.2 µF tantalum capacitor between CAP and AGND2.", 5 AGND2 (power) "Analog Ground.", 6 D15 (MSB) (hiz) "Data Bit 15. Most significant bit of conversion result. High impedance state when C\S\ is HIGH or when R/C\ is LOW.", 7 D14 (hiz) "Data Bits 14. High impedance state when C\S\ is HIGH or when R/C\ is LOW.", 8 D13 (hiz) "Data Bits 13. High impedance state when C\S\ is HIGH or when R/C\ is LOW.", 9 D12 (hiz) "Data Bits 12. High impedance state when C\S\ is HIGH or when R/C\ is LOW.", 10 D11 (hiz) "Data Bits 11. High impedance state when C\S\ is HIGH or when R/C\ is LOW.", 11 D10 (hiz) "Data Bits 10. High impedance state when C\S\ is HIGH or when R/C\ is LOW.", 12 D9 (hiz) "Data Bits 9. High impedance state when C\S\ is HIGH or when R/C\ is LOW.", 13 D8 (hiz) "Data Bits 8. High impedance state when C\S\ is HIGH or when R/C\ is LOW.", 14 DGND (power) "Digital Ground.", 15 D7 (hiz) "Data Bits 7. High impedance state when C\S\ is HIGH or when R/C\ is LOW.", 16 D6 (hiz) "Data Bits 6. High impedance state when C\S\ is HIGH or when R/C\ is LOW.", 17 D5 (hiz) "Data Bits 5. High impedance state when C\S\ is HIGH or when R/C\ is LOW.", 18 D4 (hiz) "Data Bits 4. High impedance state when C\S\ is HIGH or when R/C\ is LOW.", 19 D3 (hiz) "Data Bits 3. High impedance state when C\S\ is HIGH or when R/C\ is LOW.", 20 D2 (hiz) "Data Bits 2. High impedance state when C\S\ is HIGH or when R/C\ is LOW.", 21 D1 (hiz) "Data Bits 1. High impedance state when C\S\ is HIGH or when R/C\ is LOW.", 22 D0 (LSB) (hiz) "Data Bit 0. Least significant bit of conversion result. High impedance state when C\S\ is HIGH or when R/C\ is LOW.", 23 BYTE (in) "Byte Select. With BYTE LOW, data will be output as indicated above; Pin 6 (D15) is the MSB, Pin 22 (D0) is the LSB. With BYTE HIGH, the top and bottom 8 bits of data will be switched; D15-D8 are output on Pins 15-22 and (See Datasheet)", 24 R/~{C} (in) "Read/Convert Input. With C\S\ LOW, a falling edge on R/C\ puts the internal sample/hold into the hold state and starts a conversion; a rising edge enables the output data bits.", 25 ~{CS} (in) "Chip Select Input. Internally OR’d with R/C\. With R/C\ LOW, a falling edge on C\S\ will initiate a conversion. With R/C\ HIGH, a falling edge on C\S\ will enable the output data bits. When C\S\ is HIGH, the output data bits (See Datasheet)", 26 ~{BUSY} (out) "Busy Output. Goes LOW when a conversion is started and remains LOW until the conversion is completed and the data is latched into the output register. With C\S\ tied LOW and R/C\ HIGH, output data will be valid when B\U\S\Y\ (See Datasheet)", 27 VANA (power) "Analog Power Supply. Nominally +5 V.", 28 VDIG (power) "Digital Power Supply. Nominally +5 V."

## AD976AARSZ
designator U?
Single 16-Bit BiCMOS Analog-to-Digital Converter with Parallel Interface, CMOS, 200KSPS, -40 to +85 degC, RS-28, Pb-Free, Tube; Generic Part Number: AD976A; Manufacturer: Analog Devices; PartNumber: AD976AARSZ; Resolution (Bits): 16; Channels: 1; Throughput Rate (SPS): 200K; Interface: Par; DatasheetVersion: Rev.C; PackageVersion: 060106-A; PackageReference: RS-28; PackageDescription: 28-Lead Shrink Small Outline Package [SSOP]; Supplier 1: Digi-Key; Supplier Part Number 1: AD976AARSZ-ND; Supplier 2: Newark; Supplier Part Number 2: 12M9246; Supplier 3: Mouser; Supplier Part Number 3: 584-AD976AARSZ; RoHS: Y; Packing: Tube; Mounting Technology: Surface Mount; Code_JEDEC: MO-150-AH; ComponentLink1Description: Manufacturer URL; ComponentLink1URL: http://www.analog.com/en/index.html; ComponentLink2Description: Datasheet; ComponentLink2URL: http://www.analog.com/static/imported-files/data_sheets/AD976_976A.pdf; ComponentLink3Description: Package Specification; ComponentLink3URL: http://www.analog.com/static/imported-files/packages/32122249223724RS_28.pdf; ComponentLink4Description: Product URL; ComponentLink4URL: http://www.analog.com/en/analog-to-digital-converters/ad-converters/ad976a/products/product.html
footprint RS-28_N (SOP, 28-Leads, Body 10.2x5.3mm, Pitch 0.65mm, IPC Medium Density)
footprint RS-28_L (SOP, 28-Leads, Body 10.2x5.3mm, Pitch 0.65mm, IPC High Density)
footprint RS-28_M (SOP, 28-Leads, Body 10.2x5.3mm, Pitch 0.65mm, IPC Low Density)
pins: 1 VIN (in) "Analog Input. Connect a 200 ohm resistor between VIN and the analog signal source. The full-scale input range is +/-10 V.", 2 AGND1 (power) "Analog Ground. Used as the ground reference point for the REF pin.", 3 REF (io) "Reference Input/Output. The internal +2.5 V reference is available at this pin. Alternatively, an external reference can be used to override the internal reference. In either case, connect a 2.2 µf tantalum capacitor between (See Datasheet)", 4 CAP (out) "Reference Buffer Output. Connect a 2.2 µF tantalum capacitor between CAP and AGND2.", 5 AGND2 (power) "Analog Ground.", 6 D15 (MSB) (hiz) "Data Bit 15. Most significant bit of conversion result. High impedance state when C\S\ is HIGH or when R/C\ is LOW.", 7 D14 (hiz) "Data Bits 14. High impedance state when C\S\ is HIGH or when R/C\ is LOW.", 8 D13 (hiz) "Data Bits 13. High impedance state when C\S\ is HIGH or when R/C\ is LOW.", 9 D12 (hiz) "Data Bits 12. High impedance state when C\S\ is HIGH or when R/C\ is LOW.", 10 D11 (hiz) "Data Bits 11. High impedance state when C\S\ is HIGH or when R/C\ is LOW.", 11 D10 (hiz) "Data Bits 10. High impedance state when C\S\ is HIGH or when R/C\ is LOW.", 12 D9 (hiz) "Data Bits 9. High impedance state when C\S\ is HIGH or when R/C\ is LOW.", 13 D8 (hiz) "Data Bits 8. High impedance state when C\S\ is HIGH or when R/C\ is LOW.", 14 DGND (power) "Digital Ground.", 15 D7 (hiz) "Data Bits 7. High impedance state when C\S\ is HIGH or when R/C\ is LOW.", 16 D6 (hiz) "Data Bits 6. High impedance state when C\S\ is HIGH or when R/C\ is LOW.", 17 D5 (hiz) "Data Bits 5. High impedance state when C\S\ is HIGH or when R/C\ is LOW.", 18 D4 (hiz) "Data Bits 4. High impedance state when C\S\ is HIGH or when R/C\ is LOW.", 19 D3 (hiz) "Data Bits 3. High impedance state when C\S\ is HIGH or when R/C\ is LOW.", 20 D2 (hiz) "Data Bits 2. High impedance state when C\S\ is HIGH or when R/C\ is LOW.", 21 D1 (hiz) "Data Bits 1. High impedance state when C\S\ is HIGH or when R/C\ is LOW.", 22 D0 (LSB) (hiz) "Data Bit 0. Least significant bit of conversion result. High impedance state when C\S\ is HIGH or when R/C\ is LOW.", 23 BYTE (in) "Byte Select. With BYTE LOW, data will be output as indicated above; Pin 6 (D15) is the MSB, Pin 22 (D0) is the LSB. With BYTE HIGH, the top and bottom 8 bits of data will be switched; D15-D8 are output on Pins 15-22 and (See Datasheet)", 24 R/~{C} (in) "Read/Convert Input. With C\S\ LOW, a falling edge on R/C\ puts the internal sample/hold into the hold state and starts a conversion; a rising edge enables the output data bits.", 25 ~{CS} (in) "Chip Select Input. Internally OR’d with R/C\. With R/C\ LOW, a falling edge on C\S\ will initiate a conversion. With R/C\ HIGH, a falling edge on C\S\ will enable the output data bits. When C\S\ is HIGH, the output data bits (See Datasheet)", 26 ~{BUSY} (out) "Busy Output. Goes LOW when a conversion is started and remains LOW until the conversion is completed and the data is latched into the output register. With C\S\ tied LOW and R/C\ HIGH, output data will be valid when B\U\S\Y\ (See Datasheet)", 27 VANA (power) "Analog Power Supply. Nominally +5 V.", 28 VDIG (power) "Digital Power Supply. Nominally +5 V."